# Altium footprint library BMS_Chips.PcbLib: 1 footprints
Each footprint in its own frame and in the unit in brackets; x right, y up, seen from the top. Pads: shape width x height; smd on the part's side, far side on the other; paste and mask are expansions set on the pad; w line width, h text height; cw(c..) or ccw(c..) is an arc to the next point about the centre after c.
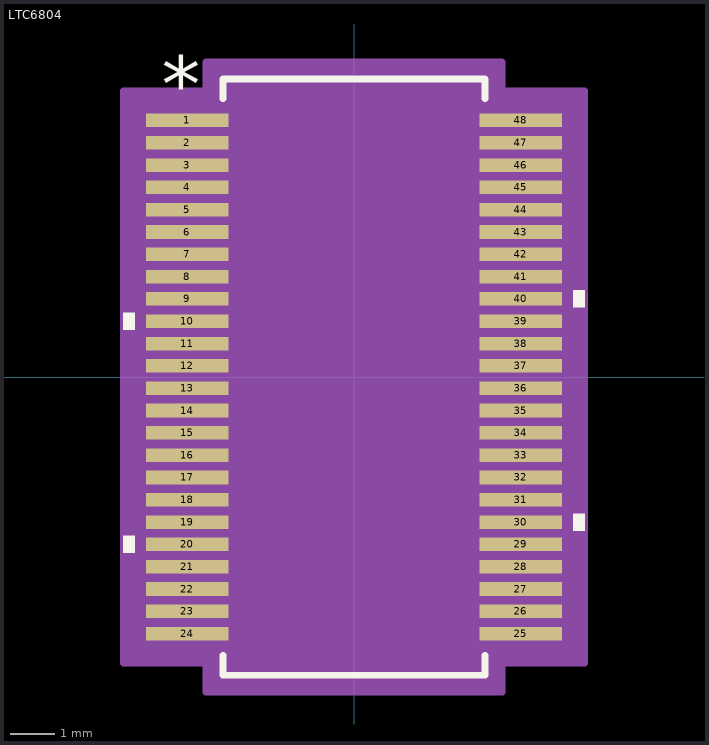
[diagram p0: the footprint, top view; thin cyan lines are the x and y axes]

## LTC6804 [mil]
pads (48):
  rect 73x12 smd paste+0 mask+0: 1(-147,226.38) 2(-147,206.69) 3(-147,187.01) 4(-147,167.32) 5(-147,147.64) 6(-147,127.95) 7(-147,108.27) 8(-147,88.58) 9(-147,68.9) 10(-147,49.21) 11(-147,29.53) 12(-147,9.84) 13(-147,-9.84) 14(-147,-29.53) 15(-147,-49.21) 16(-147,-68.9) 17(-147,-88.58) 18(-147,-108.27) 19(-147,-127.95) 20(-147,-147.64) 21(-147,-167.32) 22(-147,-187.01) 23(-147,-206.69) 24(-147,-226.38) 25(147,-226.38) 26(147,-206.69) 27(147,-187.01) 28(147,-167.32) 29(147,-147.64) 30(147,-127.95) 31(147,-108.27) 32(147,-88.58) 33(147,-68.9) 34(147,-49.21) 35(147,-29.53) 36(147,-9.84) 37(147,9.84) 38(147,29.53) 39(147,49.21) 40(147,68.9) 41(147,88.58) 42(147,108.27) 43(147,127.95) 44(147,147.64) 45(147,167.32) 46(147,187.01) 47(147,206.69) 48(147,226.38)
Top Overlay:
  region: 193.5,76.4 203.5,76.4 203.5,61.4 193.5,61.4
  region: 193.5,-120.45 203.5,-120.45 203.5,-135.45 193.5,-135.45
  region: -193.5,-140.14 -203.5,-140.14 -203.5,-155.14 -193.5,-155.14
  region: -193.5,56.71 -203.5,56.71 -203.5,41.71 -193.5,41.71
  lines w6: -115.5,-245.48 -115.5,-263 115.5,-263 115.5,-245.48 ; -115.5,245.48 -115.5,263 115.5,263 115.5,245.48
  text "*" at -169.5,233.38 h50
Mechanical 13:
  drawing of 197 lines, arcs and shapes, not listed
  text "*" at -108,205 h50
Mechanical 15:
  region: -130.5,-252.38 -203.5,-252.38 -203.5,252.38 -130.5,252.38 -130.5,278 130.5,278 130.5,252.38 203.5,252.38 203.5,-252.38 130.5,-252.38 130.5,-278 -130.5,-278
  lines w6: -203.5,-252.38 -130.5,-252.38 -130.5,-278 130.5,-278 130.5,-252.38 203.5,-252.38 203.5,252.38 130.5,252.38 130.5,278 -130.5,278 -130.5,252.38 -203.5,252.38 -203.5,-252.38
3D body "05-08-1887_ADI.step": height 79.09, standoff 0, extent -161.5,-257.99 161.5,257.99